# EAGLE library part MAX745EAC (library BB8)
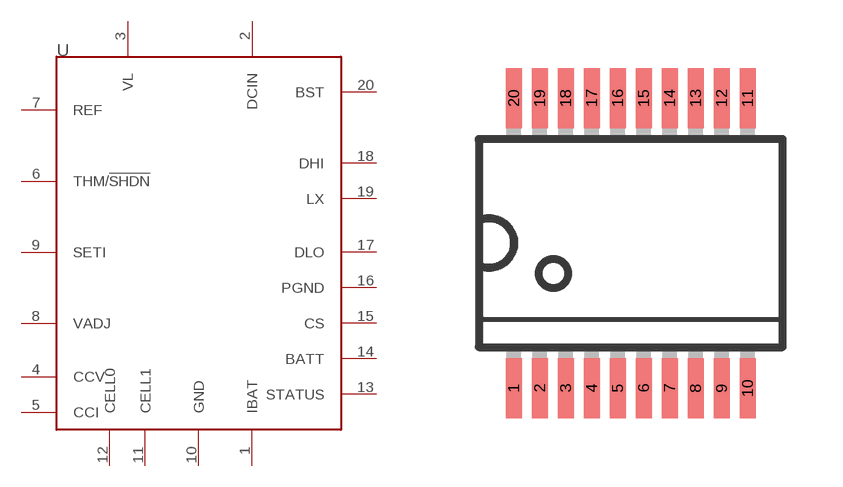
[diagram p2: symbol with the pads of SSOP20; footprint SSOP20]

Designator prefix U

## MAX745EACSSOP  [SSOP20]
1  IBAT
2  DCIN  pwr
3  VL
4  CCV
5  CCI
6  THM/!SHDN
7  REF
8  VADJ
9  SETI
10  GND  pwr
11  CELL1
12  CELL0
13  STATUS
14  BATT
15  CS
16  PGND
17  DLO
18  DHI
19  LX
20  BST

## Footprint SSOP20 (pad centres in mm)
Shrink Small Outline Package package type SS
smd 0.4 x 1.5: 1 -2.925,-3.625; 2 -2.275,-3.625; 3 -1.625,-3.625; 4 -0.975,-3.625; 5 -0.325,-3.625; 6 0.325,-3.625; 7 0.975,-3.625; 8 1.625,-3.625; 9 2.275,-3.625; 10 2.925,-3.625; 11 2.925,3.625; 12 2.275,3.625; 13 1.625,3.625; 14 0.975,3.625; 15 0.325,3.625; 16 -0.325,3.625; 17 -0.975,3.625; 18 -1.625,3.625; 19 -2.275,3.625; 20 -2.925,3.625